# Altium integrated library EchoStar.IntLib: 38 symbols
Pins are listed as number, name and electrical type; pins without a type are passive.

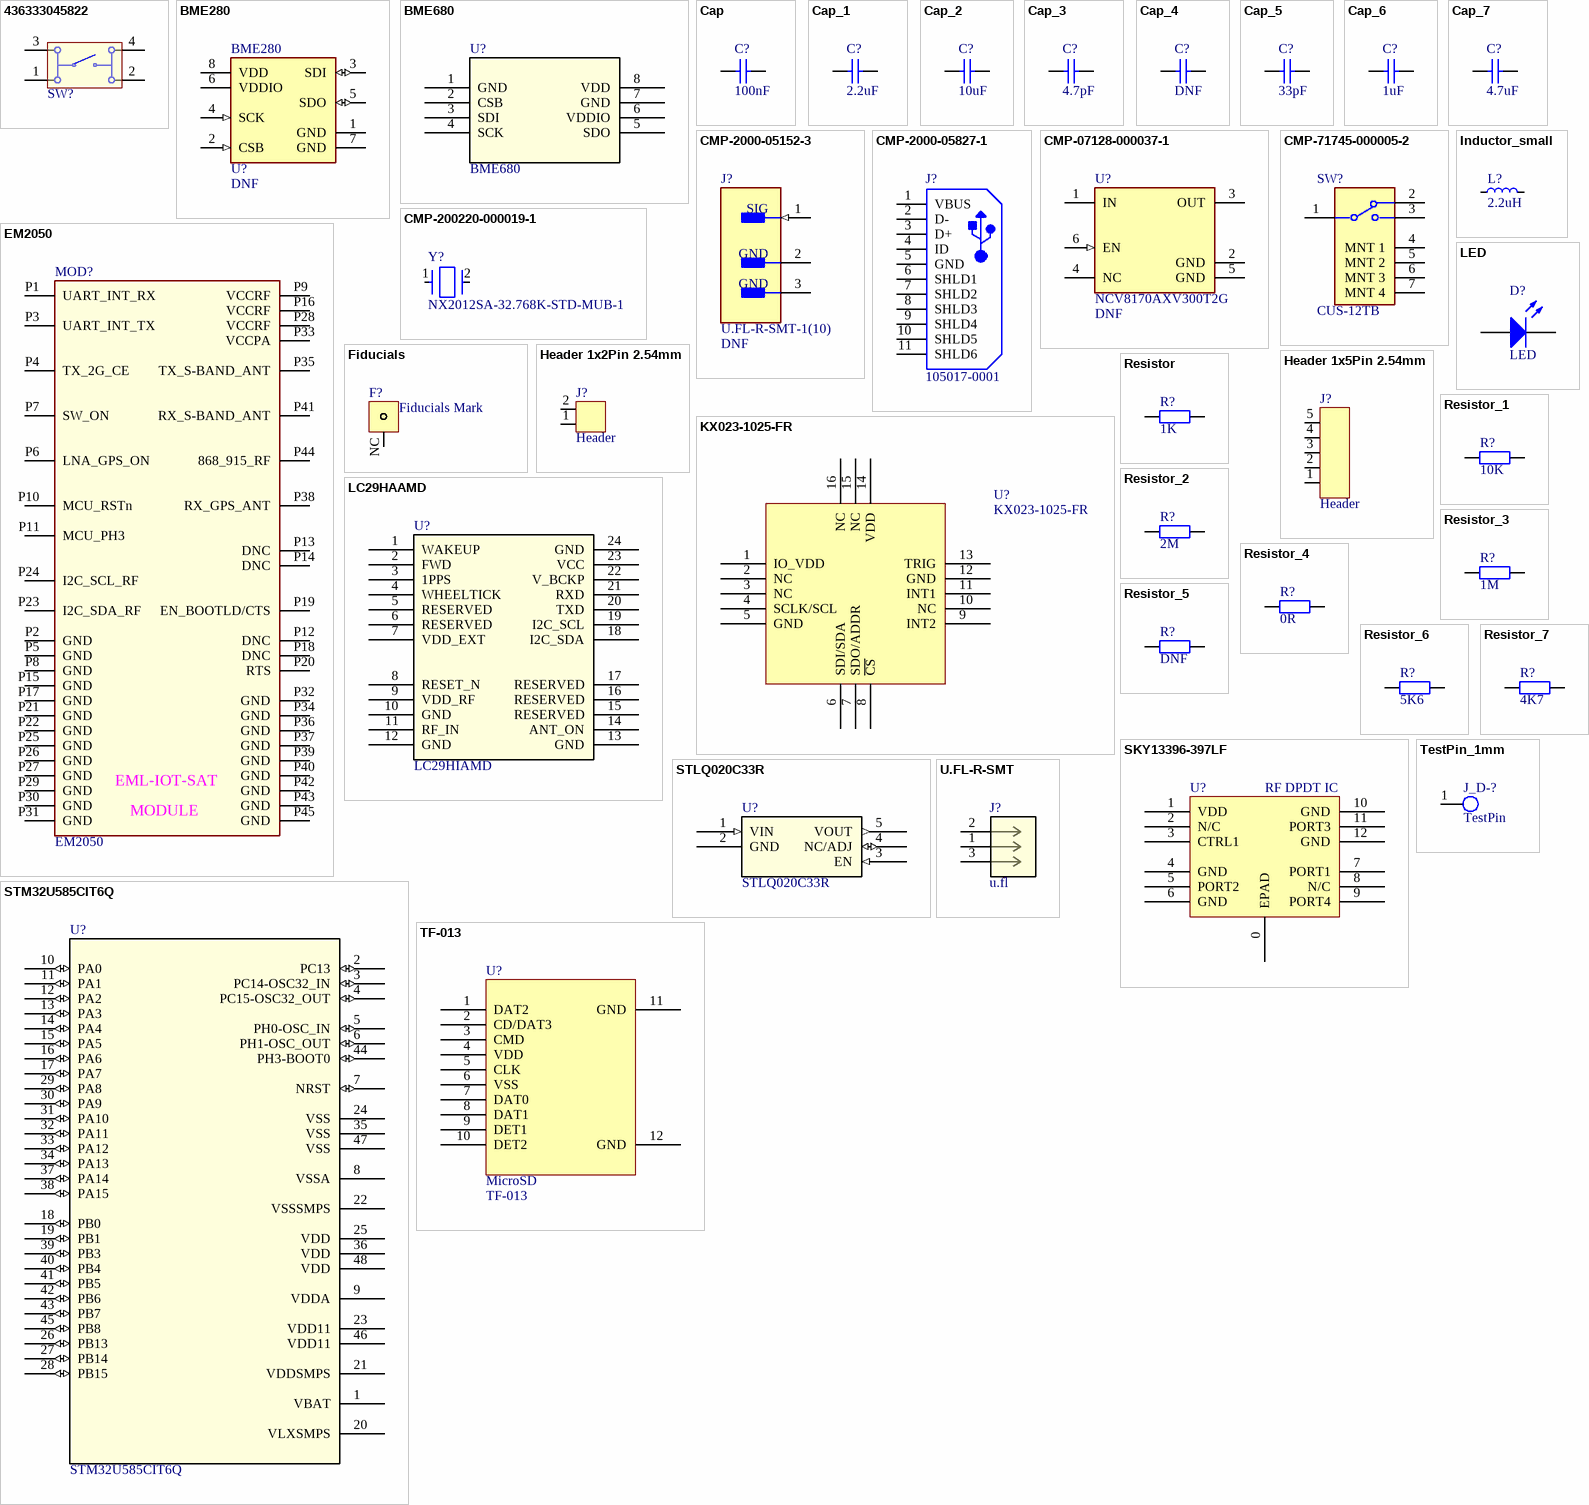
[diagram p0: symbols 436333045822 to U.FL-R-SMT]

## 436333045822
designator SW?  (value not drawn)
WS-TASU J-Bend J-Bend SMD Tact Switch with boss design 4.7X3.5 mm side push; Manufacturer: Wuerth Elektronik; ComponentLink1Description: Manufacturer URL; ComponentLink2Description: Datasheet; ComponentLink1URL: http://www.we-online.com; PartNumber: 436333045822; ComponentLink2URL: http://katalog.we-online.de/em/datasheet/436333045822.pdf; PackageReference: 436333045822
footprint 436333045822
pins: 1, 2, 3, 4

## BME280
designator U?  value DNF
footprint Bosch_BME280_0
pins: 1 GND (power), 2 CSB (in), 3 SDI (io), 4 SCK (in), 5 SDO (io), 6 VDDIO (power), 7 GND (power), 8 VDD (power)

## BME680
designator U?
No Description Available; Mfr_Name: Bosch Sensortec; Copyright: Copyright (C) 2023 Ultra Librarian. All rights reserved.; Manufacturer_Part_Number: BME680; RefDes: RefDes; Type: DEV
footprint LGA8_BME680_BOS
pins: 1 GND, 2 CSB, 3 SDI, 4 SCK, 5 SDO, 6 VDDIO, 7 GND, 8 VDD

## Cap
designator C?  value 100nF  (hidden comment: Cap)
Capacitor SMD; Published: 8-Jun-2000; LatestRevisionDate: 05-oct-2007  -  Semtech; LatestRevisionNote: Re-released for DXP Platform.; Publisher: Altium Limited
simulation model CAP (Semiconductor Capacitor)
signal-integrity model Cap Semi
footprint rlc_402_smd (Chip SMD component 402; Body 1.0 x 0.5 mm (LxW typ))
footprint rlc_603_smd (Chip SMD component 603; Body 1.6 x 0.8mm (LxW typ))
footprint rlc_805_smd (Chip SMD component 805; Body 2.0 x 1.25 mm (LxW typ))
footprint rlc_1206_smd (Chip SMD component 1206; Body 3.2 x 1.6 mm (LxW typ))
footprint rlc_201_smd (Chip SMD component 201; Body 0.6 x 0.3 mm (LxW typ))
footprint rlc_201_smd_small (Chip SMD component 201; Body 0.6 x 0.3 mm (LxW typ); small footprint)
footprint rlc_805_smd (Chip SMD component 805; Body 2.0 x 1.25 mm (LxW typ))
footprint rlc_1206_smd_small (Chip SMD component 1206; Body 3.2 x 1.6 mm (LxW typ))
footprint rlc_402_smd_small (Chip SMD component 402; Body 1.0 x 0.5 mm (LxW typ);small footprint)
footprint rlc_603_smd_small (Chip SMD component 603; Body 1.6 x 0.8mm (LxW typ); small footprint)
footprint rlc_805_smd_small (Chip SMD component 805; Body 2.0 x 1.25 mm (LxW typ); small footprint)
footprint rlc_201_smd (Chip SMD component 201; Body 0.6 x 0.3 mm (LxW typ))
pins: 1, 2

## Cap_1
designator C?, comment value 2.2uF  (hidden comment: Cap)
Capacitor SMD; Published: 8-Jun-2000; LatestRevisionDate: 05-oct-2007  -  Semtech; LatestRevisionNote: Re-released for DXP Platform.; Publisher: Altium Limited
simulation model CAP (Semiconductor Capacitor)
signal-integrity model Cap Semi
footprint rlc_402_smd (Chip SMD component 402; Body 1.0 x 0.5 mm (LxW typ))
footprint rlc_603_smd (Chip SMD component 603; Body 1.6 x 0.8mm (LxW typ))
footprint rlc_805_smd (Chip SMD component 805; Body 2.0 x 1.25 mm (LxW typ))
footprint rlc_1206_smd (Chip SMD component 1206; Body 3.2 x 1.6 mm (LxW typ))
footprint rlc_201_smd (Chip SMD component 201; Body 0.6 x 0.3 mm (LxW typ))
footprint rlc_201_smd_small (Chip SMD component 201; Body 0.6 x 0.3 mm (LxW typ); small footprint)
footprint rlc_805_smd (Chip SMD component 805; Body 2.0 x 1.25 mm (LxW typ))
footprint rlc_1206_smd_small (Chip SMD component 1206; Body 3.2 x 1.6 mm (LxW typ))
footprint rlc_402_smd_small (Chip SMD component 402; Body 1.0 x 0.5 mm (LxW typ);small footprint)
footprint rlc_603_smd_small (Chip SMD component 603; Body 1.6 x 0.8mm (LxW typ); small footprint)
footprint rlc_805_smd_small (Chip SMD component 805; Body 2.0 x 1.25 mm (LxW typ); small footprint)
footprint rlc_201_smd (Chip SMD component 201; Body 0.6 x 0.3 mm (LxW typ))
pins: 1, 2

## Cap_2
designator C?, comment value 10uF  (hidden comment: Cap)
Capacitor SMD; Published: 8-Jun-2000; LatestRevisionDate: 05-oct-2007  -  Semtech; LatestRevisionNote: Re-released for DXP Platform.; Publisher: Altium Limited
simulation model CAP (Semiconductor Capacitor)
signal-integrity model Cap Semi
footprint rlc_402_smd (Chip SMD component 402; Body 1.0 x 0.5 mm (LxW typ))
footprint rlc_603_smd (Chip SMD component 603; Body 1.6 x 0.8mm (LxW typ))
footprint rlc_805_smd (Chip SMD component 805; Body 2.0 x 1.25 mm (LxW typ))
footprint rlc_1206_smd (Chip SMD component 1206; Body 3.2 x 1.6 mm (LxW typ))
footprint rlc_201_smd (Chip SMD component 201; Body 0.6 x 0.3 mm (LxW typ))
footprint rlc_201_smd_small (Chip SMD component 201; Body 0.6 x 0.3 mm (LxW typ); small footprint)
footprint rlc_805_smd (Chip SMD component 805; Body 2.0 x 1.25 mm (LxW typ))
footprint rlc_1206_smd_small (Chip SMD component 1206; Body 3.2 x 1.6 mm (LxW typ))
footprint rlc_402_smd_small (Chip SMD component 402; Body 1.0 x 0.5 mm (LxW typ);small footprint)
footprint rlc_603_smd_small (Chip SMD component 603; Body 1.6 x 0.8mm (LxW typ); small footprint)
footprint rlc_805_smd_small (Chip SMD component 805; Body 2.0 x 1.25 mm (LxW typ); small footprint)
footprint rlc_201_smd (Chip SMD component 201; Body 0.6 x 0.3 mm (LxW typ))
pins: 1, 2

## Cap_3
designator C?, comment value 4.7pF  (hidden comment: Cap)
Capacitor SMD; Published: 8-Jun-2000; LatestRevisionDate: 05-oct-2007  -  Semtech; LatestRevisionNote: Re-released for DXP Platform.; Publisher: Altium Limited
simulation model CAP (Semiconductor Capacitor)
signal-integrity model Cap Semi
footprint rlc_402_smd (Chip SMD component 402; Body 1.0 x 0.5 mm (LxW typ))
footprint rlc_603_smd (Chip SMD component 603; Body 1.6 x 0.8mm (LxW typ))
footprint rlc_805_smd (Chip SMD component 805; Body 2.0 x 1.25 mm (LxW typ))
footprint rlc_1206_smd (Chip SMD component 1206; Body 3.2 x 1.6 mm (LxW typ))
footprint rlc_201_smd (Chip SMD component 201; Body 0.6 x 0.3 mm (LxW typ))
footprint rlc_201_smd_small (Chip SMD component 201; Body 0.6 x 0.3 mm (LxW typ); small footprint)
footprint rlc_805_smd (Chip SMD component 805; Body 2.0 x 1.25 mm (LxW typ))
footprint rlc_1206_smd_small (Chip SMD component 1206; Body 3.2 x 1.6 mm (LxW typ))
footprint rlc_402_smd_small (Chip SMD component 402; Body 1.0 x 0.5 mm (LxW typ);small footprint)
footprint rlc_603_smd_small (Chip SMD component 603; Body 1.6 x 0.8mm (LxW typ); small footprint)
footprint rlc_805_smd_small (Chip SMD component 805; Body 2.0 x 1.25 mm (LxW typ); small footprint)
footprint rlc_201_smd (Chip SMD component 201; Body 0.6 x 0.3 mm (LxW typ))
pins: 1, 2

## Cap_4
designator C?, comment value DNF  (hidden comment: Cap)
Capacitor SMD; Published: 8-Jun-2000; LatestRevisionDate: 05-oct-2007  -  Semtech; LatestRevisionNote: Re-released for DXP Platform.; Publisher: Altium Limited
simulation model CAP (Semiconductor Capacitor)
signal-integrity model Cap Semi
footprint rlc_402_smd (Chip SMD component 402; Body 1.0 x 0.5 mm (LxW typ))
footprint rlc_603_smd (Chip SMD component 603; Body 1.6 x 0.8mm (LxW typ))
footprint rlc_805_smd (Chip SMD component 805; Body 2.0 x 1.25 mm (LxW typ))
footprint rlc_1206_smd (Chip SMD component 1206; Body 3.2 x 1.6 mm (LxW typ))
footprint rlc_201_smd (Chip SMD component 201; Body 0.6 x 0.3 mm (LxW typ))
footprint rlc_201_smd_small (Chip SMD component 201; Body 0.6 x 0.3 mm (LxW typ); small footprint)
footprint rlc_805_smd (Chip SMD component 805; Body 2.0 x 1.25 mm (LxW typ))
footprint rlc_1206_smd_small (Chip SMD component 1206; Body 3.2 x 1.6 mm (LxW typ))
footprint rlc_402_smd_small (Chip SMD component 402; Body 1.0 x 0.5 mm (LxW typ);small footprint)
footprint rlc_603_smd_small (Chip SMD component 603; Body 1.6 x 0.8mm (LxW typ); small footprint)
footprint rlc_805_smd_small (Chip SMD component 805; Body 2.0 x 1.25 mm (LxW typ); small footprint)
footprint rlc_201_smd (Chip SMD component 201; Body 0.6 x 0.3 mm (LxW typ))
pins: 1, 2

## Cap_5
designator C?, comment value 33pF  (hidden comment: Cap)
Capacitor SMD; Published: 8-Jun-2000; LatestRevisionDate: 05-oct-2007  -  Semtech; LatestRevisionNote: Re-released for DXP Platform.; Publisher: Altium Limited
simulation model CAP (Semiconductor Capacitor)
signal-integrity model Cap Semi
footprint rlc_402_smd (Chip SMD component 402; Body 1.0 x 0.5 mm (LxW typ))
footprint rlc_603_smd (Chip SMD component 603; Body 1.6 x 0.8mm (LxW typ))
footprint rlc_805_smd (Chip SMD component 805; Body 2.0 x 1.25 mm (LxW typ))
footprint rlc_1206_smd (Chip SMD component 1206; Body 3.2 x 1.6 mm (LxW typ))
footprint rlc_201_smd (Chip SMD component 201; Body 0.6 x 0.3 mm (LxW typ))
footprint rlc_201_smd_small (Chip SMD component 201; Body 0.6 x 0.3 mm (LxW typ); small footprint)
footprint rlc_805_smd (Chip SMD component 805; Body 2.0 x 1.25 mm (LxW typ))
footprint rlc_1206_smd_small (Chip SMD component 1206; Body 3.2 x 1.6 mm (LxW typ))
footprint rlc_402_smd_small (Chip SMD component 402; Body 1.0 x 0.5 mm (LxW typ);small footprint)
footprint rlc_603_smd_small (Chip SMD component 603; Body 1.6 x 0.8mm (LxW typ); small footprint)
footprint rlc_805_smd_small (Chip SMD component 805; Body 2.0 x 1.25 mm (LxW typ); small footprint)
footprint rlc_201_smd (Chip SMD component 201; Body 0.6 x 0.3 mm (LxW typ))
pins: 1, 2

## Cap_6
designator C?, comment value 1uF  (hidden comment: Cap)
Capacitor SMD; Published: 8-Jun-2000; LatestRevisionDate: 05-oct-2007  -  Semtech; LatestRevisionNote: Re-released for DXP Platform.; Publisher: Altium Limited
simulation model CAP (Semiconductor Capacitor)
signal-integrity model Cap Semi
footprint rlc_402_smd (Chip SMD component 402; Body 1.0 x 0.5 mm (LxW typ))
footprint rlc_603_smd (Chip SMD component 603; Body 1.6 x 0.8mm (LxW typ))
footprint rlc_805_smd (Chip SMD component 805; Body 2.0 x 1.25 mm (LxW typ))
footprint rlc_1206_smd (Chip SMD component 1206; Body 3.2 x 1.6 mm (LxW typ))
footprint rlc_201_smd (Chip SMD component 201; Body 0.6 x 0.3 mm (LxW typ))
footprint rlc_201_smd_small (Chip SMD component 201; Body 0.6 x 0.3 mm (LxW typ); small footprint)
footprint rlc_805_smd (Chip SMD component 805; Body 2.0 x 1.25 mm (LxW typ))
footprint rlc_1206_smd_small (Chip SMD component 1206; Body 3.2 x 1.6 mm (LxW typ))
footprint rlc_402_smd_small (Chip SMD component 402; Body 1.0 x 0.5 mm (LxW typ);small footprint)
footprint rlc_603_smd_small (Chip SMD component 603; Body 1.6 x 0.8mm (LxW typ); small footprint)
footprint rlc_805_smd_small (Chip SMD component 805; Body 2.0 x 1.25 mm (LxW typ); small footprint)
footprint rlc_201_smd (Chip SMD component 201; Body 0.6 x 0.3 mm (LxW typ))
pins: 1, 2

## Cap_7
designator C?, comment value 4.7uF  (hidden comment: Cap)
Capacitor SMD; Published: 8-Jun-2000; LatestRevisionDate: 05-oct-2007  -  Semtech; LatestRevisionNote: Re-released for DXP Platform.; Publisher: Altium Limited
simulation model CAP (Semiconductor Capacitor)
signal-integrity model Cap Semi
footprint rlc_402_smd (Chip SMD component 402; Body 1.0 x 0.5 mm (LxW typ))
footprint rlc_603_smd (Chip SMD component 603; Body 1.6 x 0.8mm (LxW typ))
footprint rlc_805_smd (Chip SMD component 805; Body 2.0 x 1.25 mm (LxW typ))
footprint rlc_1206_smd (Chip SMD component 1206; Body 3.2 x 1.6 mm (LxW typ))
footprint rlc_201_smd (Chip SMD component 201; Body 0.6 x 0.3 mm (LxW typ))
footprint rlc_201_smd_small (Chip SMD component 201; Body 0.6 x 0.3 mm (LxW typ); small footprint)
footprint rlc_805_smd (Chip SMD component 805; Body 2.0 x 1.25 mm (LxW typ))
footprint rlc_1206_smd_small (Chip SMD component 1206; Body 3.2 x 1.6 mm (LxW typ))
footprint rlc_402_smd_small (Chip SMD component 402; Body 1.0 x 0.5 mm (LxW typ);small footprint)
footprint rlc_603_smd_small (Chip SMD component 603; Body 1.6 x 0.8mm (LxW typ); small footprint)
footprint rlc_805_smd_small (Chip SMD component 805; Body 2.0 x 1.25 mm (LxW typ); small footprint)
footprint rlc_201_smd (Chip SMD component 201; Body 0.6 x 0.3 mm (LxW typ))
pins: 1, 2

## CMP-2000-05152-3
designator J?, comment U.FL-R-SMT-1(10)  value DNF
CONN U.FL RCPT STR 50 OHM SMD; Max Frequency: 6GHz; Connector Type: Coaxial; Body Plating: Silver; Body Material: Bronze; Impedance: 50R; Dielectric Material: Polymer; Insulation Resistance: 500MR; Gender: Male; Packaging: Cut Tape; Length: 3mm; Package Quantity: 2500; Termination: Solder; Lead Free: Lead Free; Series: U.FL; Min Operating Temperature: -40°C; Fastening Type: Snap; Contact Material: Brass; Orientation: Straight; Wire/Cable Type: Coaxial; Frequency: 6GHz; Contact Plating: Gold; Depth: 3.1mm; Weight: 0.001764oz; Max Operating Temperature: 90°C; Radiation Hardening: No; REACH SVHC: No SVHC; Mount: Surface Mount; Housing Color: Beige
footprint FP-U_FL-R-SMT-1_10-MFG
pins: 1 SIG (in), 2 GND (power), 3 GND (power)

## CMP-2000-05827-1
designator J?, comment 105017-0001
Micro-USB B Receptacle, Right Angle, Bottom Mount, Surface Mount, with Solder Tabs, -30 to 85 degC, 5-Pin USB, RoHS, Tape and Reel; Manufacturer: Molex; Featured Product: Micro-USBConnectorsUSBConnectors; Other Names: WM1399DKR; Package Version: Rev. F, 12/2012; Number of Contacts: 5; Connector Type: USB-microB; Catalog Drawings: 1050170001; 3D Model: 105017-0001.stp; Mating Products: WM17145-ND-CABLEMICROUSBBTOSTDA1.0MWM17147-ND-CABLEMICROUSBBTOSTDA2.0MWM17146-ND-CABLEMICROUSBBTOSTDA1.5M; PCN Assembly/Origin: ResinSupplier21/Oct/2015; Voltage - Max: 30V; Online Catalog: Molex-MicroUSB; Manufacturer URL: http://www.molex.com/; Package Description: 5-Leads USB, Micro B, Body 7.5 x 5 mm, Pitch 0.65 mm; Datasheet URL: http://www.molex.com/elqNow/elqRedir.htm?ref=http://www.molex.com/webdocs/datasheets/pdf/en-us/1050170001_IO_CONNECTORS.pdf; Ingress Protection: -; Datasheet Version: 03/2016; Mounting Type: BoardCutout,SurfaceMount,RightAngle; Circuits: 5; Standard Package: 1; Package Reference: MICRO-B; Package URL: http://www.molex.com/pdm_docs/sd/1050170001_sd.pdf; Category: Connectors,Interconnects; Series: -; RoHS Information: 1050170001CertofCompliance; Features: Shielded,SolderRetention; Family: USB,DVI,HDMIConnectors; Specifications: -; Gender: Receptacle; Packaging: Digi-Reel®; Mounting Technology: SurfaceMount
footprint USB-MICRO-B_V (USB, MICRO B, Body 7.491x4.695 mm, Pitch 0.65 mm)
pins: 1 VBUS, 2 D-, 3 D+, 4 ID, 5 GND, 6 SHLD1, 7 SHLD2, 8 SHLD3, 9 SHLD4, 10 SHLD5, 11 SHLD6

## CMP-07128-000037-1
designator U?, comment NCV8170AXV300T2G  value DNF
IC REG LINEAR 3V 150MA SOT563-6; Number of Regulators: 1; Dropout Voltage: 190mV; Mount: Surface Mount; Case/Package: SOT-563-6; Output Voltage: 3V; Packaging: Tape and Reel; Max Operating Temperature: 125°C; Min Operating Temperature: -40°C; Output Current: 150mA
footprint FP-463A-MFG
pins: 1 IN (power), 2 GND (power), 3 OUT (power), 4 NC, 5 GND (power), 6 EN (in)

## CMP-71745-000005-2
designator SW?, comment CUS-12TB
SWITCH SLIDE SPDT 300MA 4V; Electrical Life: 10000Cycles; Switch Travel: 1.5mm; Contact Style: Non-Shorting; Max Voltage Rating (DC): 20V; Operating Force: 204gf; Actuator Material: Nylon; Actuator Type: Standard; Switch Function: On-On; Orientation: Right Angle; Contact Plating: Gold; Throw Configuration: SPDT; Mount: Surface Mount; Min Operating Temperature: -20°C; Series: CUS; Actuator Length: 1.5mm; RoHS Compliant: Yes; Contact Material: Copper Alloy; Max Operating Temperature: 70°C; Voltage Rating (DC): 4V; Packaging: Tape and Reel; Radiation Hardening: No; Current Rating: 300mA; Termination: Gull Wing
footprint FP-CUS-12TB-MFG
pins: 1, 2 C, 3, 4 MNT 1, 5 MNT 2, 6 MNT 3, 7 MNT 4

## CMP-200220-000019-1
designator Y?, comment NX2012SA-32.768K-STD-MUB-1
CRYSTAL 32.7680KHZ 12.5PF SMD; Frequency Tolerance: 20ppm; ESR (Equivalent Series Resistance): 80kR; Frequency: 32.768kHz; Mount: Surface Mount; Packaging: Cut Tape; Min Operating Temperature: -40°C; Max Operating Temperature: 85°C; Case/Package: SMD/SMT; RoHS Compliant: Yes; Length: 0.081inch; Series: NX2012SA; Height: 0.024inch; Width: 0.047inch; Load Capacitance: 12.5pF
footprint FP-NX2012SA-MFG
pins: 1, 2

## EM2050
designator MOD?, comment value EM2050  (hidden comment: IOT SAT module)
Echostar Mobile IOT SAT Module - Basic version; Manufacturer: Echostar Mobile Ltd; Release: 1.0; VCCRF: 3.3V; Package: Module SMD 47x32mm; Manufacturer P/N: EM2050; Release date: 01/08/2022; RoHS Compliant: Yes; MSL: 3; VCCPA: 3.3V
footprint EM2050 (Echostar Mobile IOT SAT Module)
pins: P1 UART_INT_RX, P2 GND, P3 UART_INT_TX, P4 TX_2G_CE, P5 GND, P6 LNA_GPS_ON, P7 SW_ON, P8 GND, P9 VCCRF, P10 MCU_RSTn, P11 MCU_PH3, P12 DNC, P13 DNC, P14 DNC, P15 GND, P16 VCCRF, P17 GND, P18 DNC, P19 EN_BOOTLD/CTS, P20 RTS, P21 GND, P22 GND, P23 I2C_SDA_RF, P24 I2C_SCL_RF, P25 GND, P26 GND, P27 GND, P28 VCCRF, P29 GND, P30 GND, P31 GND, P32 GND, P33 VCCPA, P34 GND, P35 TX_S-BAND_ANT, P36 GND, P37 GND, P38 RX_GPS_ANT, P39 GND, P40 GND, P41 RX_S-BAND_ANT, P42 GND, P43 GND, P44 868_915_RF, P45 GND
text: EML-IOT-SAT; MODULE

## Fiducials
designator F?, comment Fiducials Mark
footprint Fiducial_JLCPCB_2D (The 1mm fiducial marker recommended by JLCPCB)
pins: NC

## Header 1x2Pin 2.54mm
designator J?, comment Header
Header 1x2Pin 2.54mm
footprint Header 1x2 Pin 2.54mm
footprint KF120-2-V (Domino 2Pin 2.54mm Pitch)
pins: 1, 2

## Header 1x5Pin 2.54mm
designator J?, comment Header
Header 1x5Pin 2.54mm
footprint HEADER 1X5PIN 2.54mm
pins: 1, 2, 3, 4, 5

## Inductor_small
designator L?, comment value 2.2uH  (hidden comment: Inductor small symbol)
Inductor; Code_IEC: 1005; Published: 8-Jun-2000; LatestRevisionDate: 05-oct-2007  -  Semtech; LatestRevisionNote: Re-released for DXP Platform.; Publisher: Altium Limited; Code_JEITA: 0402
footprint rlc_1812_smd (Chip SMD component 1812; Body 4.5 x 3.2 mm (LxW typ))
footprint L2813
footprint L4818
footprint L4818_small (L4818 Size for LPS4018 - 3.9x3.9mm)
footprint rlc_201_smd (Chip SMD component 201; Body 0.6 x 0.3 mm (LxW typ))
footprint rlc_201_smd_small (Chip SMD component 201; Body 0.6 x 0.3 mm (LxW typ); small footprint)
footprint rlc_402_smd (Chip SMD component 402; Body 1.0 x 0.5 mm (LxW typ))
footprint rlc_402_smd_small (Chip SMD component 402; Body 1.0 x 0.5 mm (LxW typ);small footprint)
footprint rlc_603_smd (Chip SMD component 603; Body 1.6 x 0.8mm (LxW typ))
footprint rlc_603_smd_small (Chip SMD component 603; Body 1.6 x 0.8mm (LxW typ); small footprint)
footprint rlc_805_smd (Chip SMD component 805; Body 2.0 x 1.25 mm (LxW typ))
footprint rlc_805_smd_small (Chip SMD component 805; Body 2.0 x 1.25 mm (LxW typ); small footprint)
footprint rlc_1206_smd_small (Chip SMD component 1206; Body 3.2 x 1.6 mm (LxW typ))
pins: 1, 2

## KX023-1025-FR
designator U?
Accelerometer X, Y, Z Axis ±2g, 4g, 8g 0.39Hz ~ 800Hz 16-LGA (3x3); Manufacture: Kionix Inc.; MPN: KX023-1025-FR; Digikey: 1191-1039-1-ND; LCSC: C236128
footprint KX023-1025-FR (ACCELEROMETER 2-8G I2C/SPI 16LGA)
pins: 1 IO_VDD, 2 NC, 3 NC, 4 SCLK/SCL, 5 GND, 6 SDI/SDA, 7 SDO/ADDR, 8 ~{CS}, 9 INT2, 10 NC, 11 INT1, 12 GND, 13 TRIG, 14 VDD, 15 NC, 16 NC

## LC29HAAMD
designator U?, comment LC29HIAMD
Modules GNSS / GPS; Mfr_Name: Quectel Wireless Solutions; Copyright: Copyright (C) 2023 Ultra Librarian. All rights reserved.; Manufacturer_Part_Number: LC29HIAMD; RefDes: RefDes; Type: DEV
footprint LC29D_QWS
pins: 1 WAKEUP, 2 FWD, 3 1PPS, 4 WHEELTICK, 5 RESERVED, 6 RESERVED, 7 VDD_EXT, 8 RESET_N, 9 VDD_RF, 10 GND, 11 RF_IN, 12 GND, 13 GND, 14 ANT_ON, 15 RESERVED, 16 RESERVED, 17 RESERVED, 18 I2C_SDA, 19 I2C_SCL, 20 TXD, 21 RXD, 22 V_BCKP, 23 VCC, 24 GND

## LED
designator D?
LatestRevisionDate: 05-oct-2007  -  Semtech
footprint CD1005-0402 (Chip Diode; Body 1.0 x 0.5 mm (LxW typ))
footprint CD1608-0603 (Chip Diode; Body 1.6 x 0.8 mm (LxW typ))
footprint CD2012-0805 (Chip Diode; Body 2.0 x 1.3 mm (LxW typ))
footprint Reverse LED 3216 - 1206-hole round (Reverse Package Chip LED; Body 3.2 x 1.6 mm (LxW typ))
footprint Reverse LED 3216 - 1206 - hole slot (Reverse Package Chip LED; Body 3.2 x 1.6 mm (LxW typ))
footprint LGM676 LED (Chip Diode; Body 2.1 x 1.4 mm (LxW typ))
pins: 1 A, 2 K

## Resistor
designator R?  value 1K  (hidden comment: Resistor)
Resistor SMD - IEC symbol version; LatestRevisionDate: 27-Jul-20  -  Semtech
footprint rlc_201_smd (Chip SMD component 201; Body 0.6 x 0.3 mm (LxW typ))
footprint rlc_402_smd (Chip SMD component 402; Body 1.0 x 0.5 mm (LxW typ))
footprint rlc_603_smd (Chip SMD component 603; Body 1.6 x 0.8mm (LxW typ))
footprint rlc_805_smd (Chip SMD component 805; Body 2.0 x 1.25 mm (LxW typ))
footprint rlc_1206_smd (Chip SMD component 1206; Body 3.2 x 1.6 mm (LxW typ))
footprint rlc_201_smd_small (Chip SMD component 201; Body 0.6 x 0.3 mm (LxW typ); small footprint)
footprint rlc_402_smd_small (Chip SMD component 402; Body 1.0 x 0.5 mm (LxW typ);small footprint)
footprint rlc_603_smd_small (Chip SMD component 603; Body 1.6 x 0.8mm (LxW typ); small footprint)
footprint rlc_805_smd_small (Chip SMD component 805; Body 2.0 x 1.25 mm (LxW typ); small footprint)
footprint rlc_1206_smd_small (Chip SMD component 1206; Body 3.2 x 1.6 mm (LxW typ))
pins: 1, 2

## Resistor_1
designator R?, comment value 10K  (hidden comment: Resistor)
Resistor SMD - IEC symbol version; LatestRevisionDate: 27-Jul-20  -  Semtech
footprint rlc_201_smd (Chip SMD component 201; Body 0.6 x 0.3 mm (LxW typ))
footprint rlc_402_smd (Chip SMD component 402; Body 1.0 x 0.5 mm (LxW typ))
footprint rlc_603_smd (Chip SMD component 603; Body 1.6 x 0.8mm (LxW typ))
footprint rlc_805_smd (Chip SMD component 805; Body 2.0 x 1.25 mm (LxW typ))
footprint rlc_1206_smd (Chip SMD component 1206; Body 3.2 x 1.6 mm (LxW typ))
footprint rlc_201_smd_small (Chip SMD component 201; Body 0.6 x 0.3 mm (LxW typ); small footprint)
footprint rlc_402_smd_small (Chip SMD component 402; Body 1.0 x 0.5 mm (LxW typ);small footprint)
footprint rlc_603_smd_small (Chip SMD component 603; Body 1.6 x 0.8mm (LxW typ); small footprint)
footprint rlc_805_smd_small (Chip SMD component 805; Body 2.0 x 1.25 mm (LxW typ); small footprint)
footprint rlc_1206_smd_small (Chip SMD component 1206; Body 3.2 x 1.6 mm (LxW typ))
pins: 1, 2

## Resistor_2
designator R?, comment value 2M  (hidden comment: Resistor)
Resistor SMD - IEC symbol version; LatestRevisionDate: 27-Jul-20  -  Semtech
footprint rlc_201_smd (Chip SMD component 201; Body 0.6 x 0.3 mm (LxW typ))
footprint rlc_402_smd (Chip SMD component 402; Body 1.0 x 0.5 mm (LxW typ))
footprint rlc_603_smd (Chip SMD component 603; Body 1.6 x 0.8mm (LxW typ))
footprint rlc_805_smd (Chip SMD component 805; Body 2.0 x 1.25 mm (LxW typ))
footprint rlc_1206_smd (Chip SMD component 1206; Body 3.2 x 1.6 mm (LxW typ))
footprint rlc_201_smd_small (Chip SMD component 201; Body 0.6 x 0.3 mm (LxW typ); small footprint)
footprint rlc_402_smd_small (Chip SMD component 402; Body 1.0 x 0.5 mm (LxW typ);small footprint)
footprint rlc_603_smd_small (Chip SMD component 603; Body 1.6 x 0.8mm (LxW typ); small footprint)
footprint rlc_805_smd_small (Chip SMD component 805; Body 2.0 x 1.25 mm (LxW typ); small footprint)
footprint rlc_1206_smd_small (Chip SMD component 1206; Body 3.2 x 1.6 mm (LxW typ))
pins: 1, 2

## Resistor_3
designator R?, comment value 1M  (hidden comment: Resistor)
Resistor SMD - IEC symbol version; LatestRevisionDate: 27-Jul-20  -  Semtech
footprint rlc_201_smd (Chip SMD component 201; Body 0.6 x 0.3 mm (LxW typ))
footprint rlc_402_smd (Chip SMD component 402; Body 1.0 x 0.5 mm (LxW typ))
footprint rlc_603_smd (Chip SMD component 603; Body 1.6 x 0.8mm (LxW typ))
footprint rlc_805_smd (Chip SMD component 805; Body 2.0 x 1.25 mm (LxW typ))
footprint rlc_1206_smd (Chip SMD component 1206; Body 3.2 x 1.6 mm (LxW typ))
footprint rlc_201_smd_small (Chip SMD component 201; Body 0.6 x 0.3 mm (LxW typ); small footprint)
footprint rlc_402_smd_small (Chip SMD component 402; Body 1.0 x 0.5 mm (LxW typ);small footprint)
footprint rlc_603_smd_small (Chip SMD component 603; Body 1.6 x 0.8mm (LxW typ); small footprint)
footprint rlc_805_smd_small (Chip SMD component 805; Body 2.0 x 1.25 mm (LxW typ); small footprint)
footprint rlc_1206_smd_small (Chip SMD component 1206; Body 3.2 x 1.6 mm (LxW typ))
pins: 1, 2

## Resistor_4
designator R?, comment value 0R  (hidden comment: Resistor)
Resistor SMD - IEC symbol version; LatestRevisionDate: 27-Jul-20  -  Semtech
footprint rlc_201_smd (Chip SMD component 201; Body 0.6 x 0.3 mm (LxW typ))
footprint rlc_402_smd (Chip SMD component 402; Body 1.0 x 0.5 mm (LxW typ))
footprint rlc_603_smd (Chip SMD component 603; Body 1.6 x 0.8mm (LxW typ))
footprint rlc_805_smd (Chip SMD component 805; Body 2.0 x 1.25 mm (LxW typ))
footprint rlc_1206_smd (Chip SMD component 1206; Body 3.2 x 1.6 mm (LxW typ))
footprint rlc_201_smd_small (Chip SMD component 201; Body 0.6 x 0.3 mm (LxW typ); small footprint)
footprint rlc_402_smd_small (Chip SMD component 402; Body 1.0 x 0.5 mm (LxW typ);small footprint)
footprint rlc_603_smd_small (Chip SMD component 603; Body 1.6 x 0.8mm (LxW typ); small footprint)
footprint rlc_805_smd_small (Chip SMD component 805; Body 2.0 x 1.25 mm (LxW typ); small footprint)
footprint rlc_1206_smd_small (Chip SMD component 1206; Body 3.2 x 1.6 mm (LxW typ))
pins: 1, 2

## Resistor_5
designator R?, comment value DNF  (hidden comment: Resistor)
Resistor SMD - IEC symbol version; LatestRevisionDate: 27-Jul-20  -  Semtech
footprint rlc_201_smd (Chip SMD component 201; Body 0.6 x 0.3 mm (LxW typ))
footprint rlc_402_smd (Chip SMD component 402; Body 1.0 x 0.5 mm (LxW typ))
footprint rlc_603_smd (Chip SMD component 603; Body 1.6 x 0.8mm (LxW typ))
footprint rlc_805_smd (Chip SMD component 805; Body 2.0 x 1.25 mm (LxW typ))
footprint rlc_1206_smd (Chip SMD component 1206; Body 3.2 x 1.6 mm (LxW typ))
footprint rlc_201_smd_small (Chip SMD component 201; Body 0.6 x 0.3 mm (LxW typ); small footprint)
footprint rlc_402_smd_small (Chip SMD component 402; Body 1.0 x 0.5 mm (LxW typ);small footprint)
footprint rlc_603_smd_small (Chip SMD component 603; Body 1.6 x 0.8mm (LxW typ); small footprint)
footprint rlc_805_smd_small (Chip SMD component 805; Body 2.0 x 1.25 mm (LxW typ); small footprint)
footprint rlc_1206_smd_small (Chip SMD component 1206; Body 3.2 x 1.6 mm (LxW typ))
pins: 1, 2

## Resistor_6
designator R?, comment value 5K6  (hidden comment: Resistor)
Resistor SMD - IEC symbol version; LatestRevisionDate: 27-Jul-20  -  Semtech
footprint rlc_201_smd (Chip SMD component 201; Body 0.6 x 0.3 mm (LxW typ))
footprint rlc_402_smd (Chip SMD component 402; Body 1.0 x 0.5 mm (LxW typ))
footprint rlc_603_smd (Chip SMD component 603; Body 1.6 x 0.8mm (LxW typ))
footprint rlc_805_smd (Chip SMD component 805; Body 2.0 x 1.25 mm (LxW typ))
footprint rlc_1206_smd (Chip SMD component 1206; Body 3.2 x 1.6 mm (LxW typ))
footprint rlc_201_smd_small (Chip SMD component 201; Body 0.6 x 0.3 mm (LxW typ); small footprint)
footprint rlc_402_smd_small (Chip SMD component 402; Body 1.0 x 0.5 mm (LxW typ);small footprint)
footprint rlc_603_smd_small (Chip SMD component 603; Body 1.6 x 0.8mm (LxW typ); small footprint)
footprint rlc_805_smd_small (Chip SMD component 805; Body 2.0 x 1.25 mm (LxW typ); small footprint)
footprint rlc_1206_smd_small (Chip SMD component 1206; Body 3.2 x 1.6 mm (LxW typ))
pins: 1, 2

## Resistor_7
designator R?, comment value 4K7  (hidden comment: Resistor)
Resistor SMD - IEC symbol version; LatestRevisionDate: 27-Jul-20  -  Semtech
footprint rlc_201_smd (Chip SMD component 201; Body 0.6 x 0.3 mm (LxW typ))
footprint rlc_402_smd (Chip SMD component 402; Body 1.0 x 0.5 mm (LxW typ))
footprint rlc_603_smd (Chip SMD component 603; Body 1.6 x 0.8mm (LxW typ))
footprint rlc_805_smd (Chip SMD component 805; Body 2.0 x 1.25 mm (LxW typ))
footprint rlc_1206_smd (Chip SMD component 1206; Body 3.2 x 1.6 mm (LxW typ))
footprint rlc_201_smd_small (Chip SMD component 201; Body 0.6 x 0.3 mm (LxW typ); small footprint)
footprint rlc_402_smd_small (Chip SMD component 402; Body 1.0 x 0.5 mm (LxW typ);small footprint)
footprint rlc_603_smd_small (Chip SMD component 603; Body 1.6 x 0.8mm (LxW typ); small footprint)
footprint rlc_805_smd_small (Chip SMD component 805; Body 2.0 x 1.25 mm (LxW typ); small footprint)
footprint rlc_1206_smd_small (Chip SMD component 1206; Body 3.2 x 1.6 mm (LxW typ))
pins: 1, 2

## SKY13396-397LF
designator U?, comment RF DPDT IC
RF Switch IC DPDT 3 GHz 50Ohm 12-QFN (2x2); Supplier 1: Digi-Key; Supplier Part Number 1: 863-1648-1-ND
footprint SKY13396-397LF (RF Switch ICs. 0.4 to 3.0 GHz DPDT Switch)
pins: 0 EPAD, 1 VDD, 2 N/C, 3 CTRL1, 4 GND, 5 PORT2, 6 GND, 7 PORT1, 8 N/C, 9 PORT4, 10 GND, 11 PORT3, 12 GND

## STLQ020C33R
designator U?
No Description Available; Mfr_Name: STMicroelectronics; Copyright: Copyright (C) 2023 Ultra Librarian. All rights reserved.; Manufacturer_Part_Number: STLQ020C33R; RefDes: RefDes; Type: DEV
footprint SOT323-5L_STM
pins: 1 VIN (in), 2 GND (power), 3 EN (in), 4 NC/ADJ (io), 5 VOUT (out)

## STM32U585CIT6Q
designator U?
No Description Available; Mfr_Name: STMicroelectronics; Copyright: Copyright (C) 2023 Ultra Librarian. All rights reserved.; Manufacturer_Part_Number: STM32U585CIT6Q; RefDes: RefDes; Type: DEV
footprint LQFP48-7x7mm_STM
pins: 1 VBAT (power), 2 PC13 (io), 3 PC14-OSC32_IN (io), 4 PC15-OSC32_OUT (io), 5 PH0-OSC_IN (io), 6 PH1-OSC_OUT (io), 7 NRST (io), 8 VSSA (power), 9 VDDA (power), 10 PA0 (io), 11 PA1 (io), 12 PA2 (io), 13 PA3 (io), 14 PA4 (io), 15 PA5 (io), 16 PA6 (io), 17 PA7 (io), 18 PB0 (io), 19 PB1 (io), 20 VLXSMPS (power), 21 VDDSMPS (power), 22 VSSSMPS (power), 23 VDD11 (power), 24 VSS (power), 25 VDD (power), 26 PB13 (io), 27 PB14 (io), 28 PB15 (io), 29 PA8 (io), 30 PA9 (io), 31 PA10 (io), 32 PA11 (io), 33 PA12 (io), 34 PA13 (io), 35 VSS (power), 36 VDD (power), 37 PA14 (io), 38 PA15 (io), 39 PB3 (io), 40 PB4 (io), 41 PB5 (io), 42 PB6 (io), 43 PB7 (io), 44 PH3-BOOT0 (io), 45 PB8 (io), 46 VDD11 (power), 47 VSS (power), 48 VDD (power)

## TestPin_1mm
designator J_D-?, comment TestPin
Test conntact for pogo pins
footprint TestPin_1mm
pins: 1

## TF-013
designator U?, comment MicroSD  MPN: TF-013
-20℃~+60℃ 1.8mm MicroSD SMD SD Card Connectors ROHS; Manufacturer: Korean Hroparts Elec; LCSC Part Number: C91145
footprint TF-013 (-20?~+60? 1.8mm MicroSD SMD SD Card Connectors ROHS)
footprint TF-013_1 (-20?~+60? 1.8mm MicroSD SMD SD Card Connectors ROHS)
pins: 1 DAT2, 2 CD/DAT3, 3 CMD, 4 VDD, 5 CLK, 6 VSS, 7 DAT0, 8 DAT1, 9 DET1, 10 DET2, 11 GND, 12 GND

## U.FL-R-SMT
designator J?, comment u.fl
No Description Available; Manufacturer_Part_Number: U.FL-R-SMT-1(10); Vendor: Hirose; Built_By: EMA_Matt; Copyright: Copyright (C) 2018 Accelerated Designs. All rights reserved; RefDes: RefDes; Type: DEV; Value: Value
footprint UFL Connector
pins: 1, 2, 3